# Altium schematic symbol library TC375TP.SchLib: 1 symbol
Pins are listed as number, name and electrical type; pins without a type are passive.

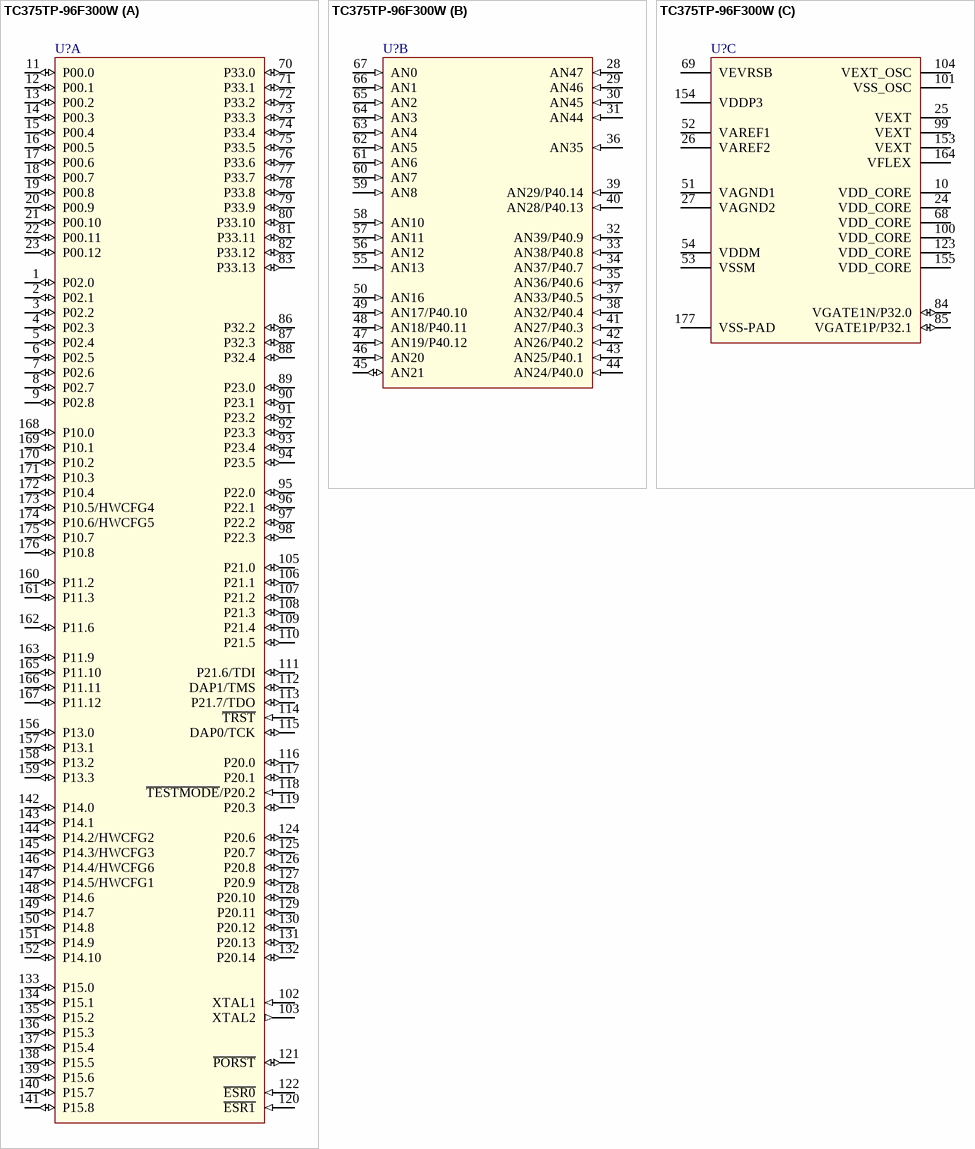
[diagram p0: symbol TC375TP-96F300W]

## TC375TP-96F300W
designator U?
value: TC375TP96F300WAA
footprint QFP176_24X24_PAD (TSQFP, 176-Leads, Body 24,00x24,00mm, Pitch 0,50mm, Thermal Pad 7,90x7,90mm, IPC Medium Density)
part A pins: 1 P02.0 (io), 2 P02.1 (io), 3 P02.2 (io), 4 P02.3 (io), 5 P02.4 (io), 6 P02.5 (io), 7 P02.6 (io), 8 P02.7 (io), 9 P02.8 (io), 11 P00.0 (io), 12 P00.1 (io), 13 P00.2 (io), 14 P00.3 (io), 15 P00.4 (io), 16 P00.5 (io), 17 P00.6 (io), 18 P00.7 (io), 19 P00.8 (io), 20 P00.9 (io), 21 P00.10 (io), 22 P00.11 (io), 23 P00.12 (io), 70 P33.0 (io), 71 P33.1 (io), 72 P33.2 (io), 73 P33.3 (io), 74 P33.4 (io), 75 P33.5 (io), 76 P33.6 (io), 77 P33.7 (io), 78 P33.8 (io), 79 P33.9 (io), 80 P33.10 (io), 81 P33.11 (io), 82 P33.12 (io), 83 P33.13 (io), 86 P32.2 (io), 87 P32.3 (io), 88 P32.4 (io), 89 P23.0 (io), 90 P23.1 (io), 91 P23.2 (io), 92 P23.3 (io), 93 P23.4 (io), 94 P23.5 (io), 95 P22.0 (io), 96 P22.1 (io), 97 P22.2 (io), 98 P22.3 (io), 102 XTAL1 (in), 103 XTAL2 (out), 105 P21.0 (io), 106 P21.1 (io), 107 P21.2 (io), 108 P21.3 (io), 109 P21.4 (io), 110 P21.5 (io), 111 P21.6/TDI (io), 112 DAP1/TMS (io), 113 P21.7/TDO (io), 114 ~{TRST} (in), 115 DAP0/TCK (io), 116 P20.0 (io), 117 P20.1 (io), 118 ~{TESTMODE}/P20.2 (in), 119 P20.3 (io), 120 ~{ESR1} (in) "External System Request Reset 1", 121 ~{PORST} (io), 122 ~{ESR0} (in) "External System Request Reset 0", 124 P20.6 (io), 125 P20.7 (io), 126 P20.8 (io), 127 P20.9 (io), 128 P20.10 (io), 129 P20.11 (io), 130 P20.12 (io), 131 P20.13 (io), 132 P20.14 (io), 133 P15.0 (io), 134 P15.1 (io), 135 P15.2 (io), 136 P15.3 (io), 137 P15.4 (io), 138 P15.5 (io), 139 P15.6 (io), 140 P15.7 (io), 141 P15.8 (io), 142 P14.0 (io), 143 P14.1 (io), 144 P14.2/HWCFG2 (io), 145 P14.3/HWCFG3 (io), 146 P14.4/HWCFG6 (io), 147 P14.5/HWCFG1 (io), 148 P14.6 (io), 149 P14.7 (io), 150 P14.8 (io), 151 P14.9 (io), 152 P14.10 (io), 156 P13.0 (io), 157 P13.1 (io), 158 P13.2 (io), 159 P13.3 (io), 160 P11.2 (io), 161 P11.3 (io), 162 P11.6 (io), 163 P11.9 (io), 165 P11.10 (io), 166 P11.11 (io), 167 P11.12 (io), 168 P10.0 (io), 169 P10.1 (io), 170 P10.2 (io), 171 P10.3 (io), 172 P10.4 (io), 173 P10.5/HWCFG4 (io), 174 P10.6/HWCFG5 (io), 175 P10.7 (io), 176 P10.8 (io)
part B pins: 28 AN47 (in), 29 AN46 (in), 30 AN45 (in), 31 AN44 (in), 32 AN39/P40.9 (in), 33 AN38/P40.8 (in), 34 AN37/P40.7 (in), 35 AN36/P40.6 (in), 36 AN35 (in), 37 AN33/P40.5 (in), 38 AN32/P40.4 (in), 39 AN29/P40.14 (in), 40 AN28/P40.13 (in), 41 AN27/P40.3 (in), 42 AN26/P40.2 (in), 43 AN25/P40.1 (in), 44 AN24/P40.0 (in), 45 AN21 (io), 46 AN20 (in), 47 AN19/P40.12 (in), 48 AN18/P40.11 (in), 49 AN17/P40.10 (in), 50 AN16 (in), 55 AN13 (in), 56 AN12 (in), 57 AN11 (in), 58 AN10 (in), 59 AN8 (in), 60 AN7 (in), 61 AN6 (in), 62 AN5 (in), 63 AN4 (in), 64 AN3 (in), 65 AN2 (in), 66 AN1 (in), 67 AN0 (in)
part C pins: 10 VDD_CORE (power), 24 VDD_CORE (power), 25 VEXT (power) "External Power Supply (5V / 3.3V)", 26 VAREF2 (power) "Positive Analog Reference Voltage 2", 27 VAGND2 (power), 51 VAGND1 (power), 52 VAREF1 (power) "Positive Analog Reference Voltage 1", 53 VSSM (power) "Analog Ground for VDDM", 54 VDDM (power) "ADC Analog Power Supply (5V / 3.3V)", 68 VDD_CORE (power), 69 VEVRSB (power) "Standby Power Supply (5V / 3.3V) for the Standby Memory", 84 VGATE1N/P32.0 (io), 85 VGATE1P/P32.1 (io), 99 VEXT (power) "External Power Supply (5V / 3.3V)", 100 VDD_CORE (power), 101 VSS_OSC (power) "Oscillator Ground", 104 VEXT_OSC (power) "Digital Power Supply for Oscillator", 123 VDD_CORE (power), 153 VEXT (power) "External Power Supply (5V / 3.3V)", 154 VDDP3 (power) "Flash Power Supply (3.3V)", 155 VDD_CORE (power), 164 VFLEX (power) "Digital Power Supply for Flex Port Pads (5V / 3.3V)", 177 VSS-PAD (power)